# EAGLE library part JST-ZH6 (library MrRobotics-Connectors)
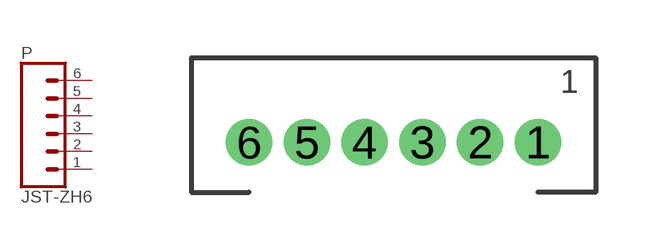
[diagram p4: symbol with the pads of JST-ZH6; footprint JST-ZH6]

Designator prefix P

## JST-ZH6  [JST-ZH6]
1  1  pas
2  2  pas
3  3  pas
4  4  pas
5  5  pas
6  6  pas

## Footprint JST-ZH6 (pad centres in mm)
drill 0.7: 1 3.75,0; 2 2.25,0; 3 0.75,0; 4 -0.75,0; 5 -2.25,0; 6 -3.75,0